# Altium footprint library PHOENIX_SPT_SMD_5.08MM_2x1.PcbLib: 1 footprints
Each footprint in its own frame and in the unit in brackets; x right, y up, seen from the top. Pads: shape width x height; smd on the part's side, far side on the other; paste and mask are expansions set on the pad; w line width, h text height; cw(c..) or ccw(c..) is an arc to the next point about the centre after c.
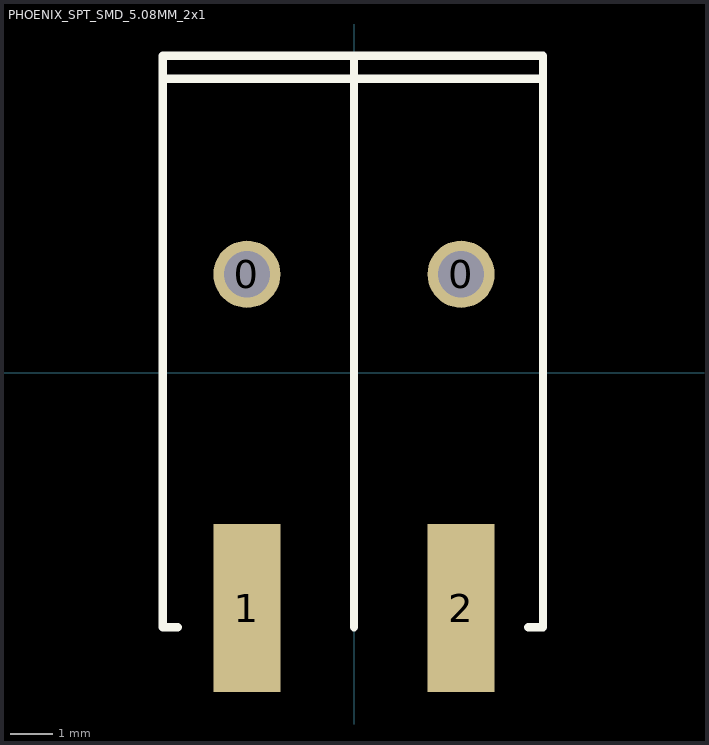
[diagram p0: the footprint, top view; thin cyan lines are the x and y axes]

## PHOENIX_SPT_SMD_5.08MM_2x1 [mm]
pads (4):
  round 1.6 hole 1.1 unplated: 0(-2.55,2.35) 0(2.55,2.35)
  rect 1.6x4 smd: 1(-2.55,-5.6) 2(2.55,-5.6)
Top Overlay:
  lines w0.2: -4.55,7 4.5,7 ; -4.2,-6.05 -4.55,-6.05 -4.55,7.55 4.5,7.55 4.5,-6.05 4.15,-6.05 ; -0.025,7.55 0,7.525 0,-6.05
3D body "PHOENIX_SPT-5-08mm_2x1.stp": height 7.7, standoff -2, extent -4.555,-7.6 4.525,7.57